# EAGLE library part 39-30-?10?_S (library con-molex-mini-fit)
HEADER
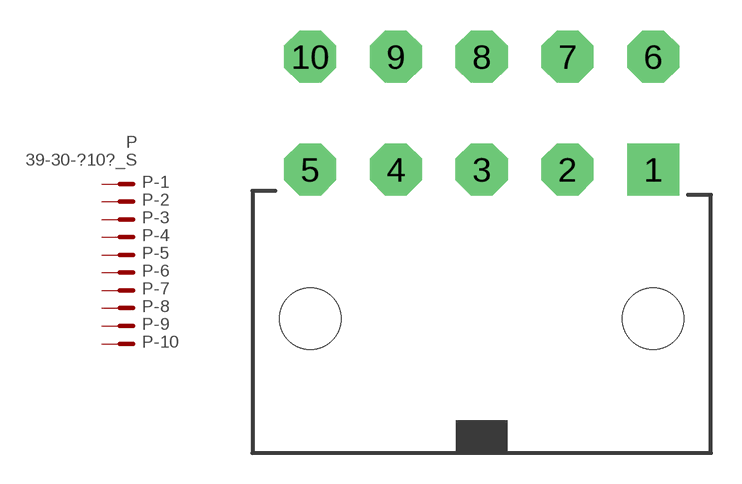
[diagram p12: symbol with the pads of 39-30-?10?; footprint 39-30-?10?]

Designator prefix P; gates -1=P-NV -2=P-N -3=P-N -4=P-N -5=P-N -6=P-N -7=P-N -8=P-N -9=P-N -10=P-N

## 39-30-10_S  [39-30-?10?]
1  -1:P  pas
2  -2:P  pas
3  -3:P  pas
4  -4:P  pas
5  -5:P  pas
6  -6:P  pas
7  -7:P  pas
8  -8:P  pas
9  -9:P  pas
10  -10:P  pas

## Footprint 39-30-?10? (pad centres in mm)
HEADER
drill 1.422 pad 2.54 square: 1 8.382,0
drill 1.422 pad 2.54 octagon: 2 4.191,0; 3 0,0; 4 -4.191,0; 5 -8.382,0; 6 8.382,5.512; 7 4.191,5.512; 8 0,5.512; 9 -4.191,5.512; 10 -8.382,5.512
hole 3 at -8.382,-7.3
hole 3 at 8.382,-7.3